# EAGLE library part TERMINAL10 (library MyLibrary)
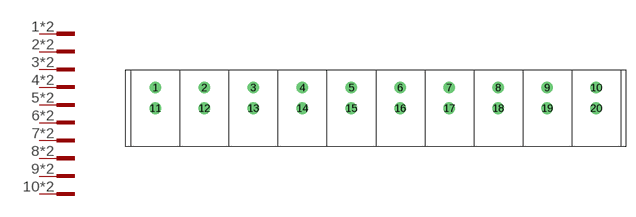
[diagram p0: symbol with the pads of BP101S-10P; footprint BP101S-10P]

Designator prefix -

## TERMINAL10  [BP101S-10P]
1  P$1
2  P$2
3  P$3
4  P$4
5  P$5
6  P$6
7  P$7
8  P$8
9  P$9
10  P$10
11  P$1
12  P$2
13  P$3
14  P$4
15  P$5
16  P$6
17  P$7
18  P$8
19  P$9
20  P$10

## Footprint BP101S-10P (pad centres in mm)
drill 1.2: 1 -34.29,3.2; 2 -26.67,3.2; 3 -19.05,3.2; 4 -11.43,3.2; 5 -3.81,3.2; 6 3.81,3.2; 7 11.43,3.2; 8 19.05,3.2; 9 26.67,3.2; 10 34.29,3.2; 11 -34.29,0; 12 -26.67,0; 13 -19.05,0; 14 -11.43,0; 15 -3.81,0; 16 3.81,0; 17 11.43,0; 18 19.05,0; 19 26.67,0; 20 34.29,0